# Altium schematic symbol library Driver_Haptic.SchLib: 2 symbols
Pins are listed as number, name and electrical type; pins without a type are passive.

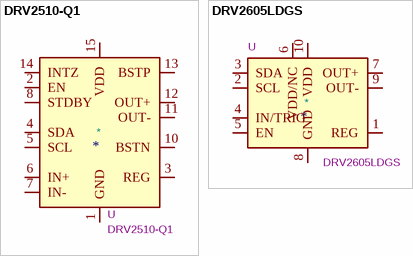
[diagram p0: symbols DRV2510-Q1 to DRV2605LDGS]

## DRV2510-Q1
designator *  value DRV2510-Q1  Reference: U
ki_keywords: driver haptic solenoid coil; ki_description: Haptic driver for solenoids and voice coils, up to 3A output, TSSOP-16; ki_fp_filters: HTSSOP*1EP*4.4x5mm*P0.65mm*; Footprint: Package_SO:HTSSOP-16-1EP_4.4x5mm_P0.65mm_EP3.4x5mm_Mask3x3mm_ThermalVias; Datasheet: http://www.ti.com/lit/ds/symlink/drv2510-q1.pdf
pins: 1 GND, 2 EN, 3 REG, 4 SDA, 5 SCL, 6 IN+, 7 IN-, 8 STDBY, 9 GND hidden, 10 BSTN, 11 OUT-, 12 OUT+, 13 BSTP, 14 INTZ, 15 VDD, 16 GND hidden, 17 GND hidden

## DRV2605LDGS
designator *  value DRV2605LDGS  Reference: U
ki_keywords: haptic driver i2c; ki_description: Haptic driver for LRAs and ERMs with effect library, 2-5.2V, VSSOP-10; ki_fp_filters: VSSOP*3x3mm*P0.5mm*; Footprint: Package_SO:VSSOP-10_3x3mm_P0.5mm; Datasheet: http://www.ti.com/lit/ds/symlink/drv2605l.pdf
pins: 1 REG, 2 SCL, 3 SDA, 4 IN/TRIG, 5 EN, 6 VDD/NC, 7 OUT+, 8 GND, 9 OUT-, 10 VDD